# Altium schematic symbol library N_MOS-2N7002.SchLib: 1 symbol
Pins are listed as number, name and electrical type; pins without a type are passive.

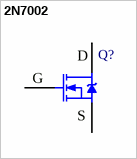
[diagram p0: symbol 2N7002]

## 2N7002
designator Q?
pins: 1 G, 2 S, 3 D